# EAGLE library part MMPF0100*A (library power)
The PF0100 SMARTMOS power management integrated circuit (PMIC) provides a highly programmable/ configurable architecture, with fully integrated power devices and minimal external components. With up to six buck converters, six linear regulators, RTC supply, and coin-cell charger, the PF0100 can provide power for a complete system, including applications processors, memory, and system peripherals, in a wide range of applications. With on-chip one time programmable (OTP) memory, the PF0100 is available in pre-programmed standard versions, or non-programmed to support custom programming. The PF0100 is defined to power an entire embedded MCU platform solution such as i.MX 6 based eReader, IPTV, medical monitoring, and home/factory automation.
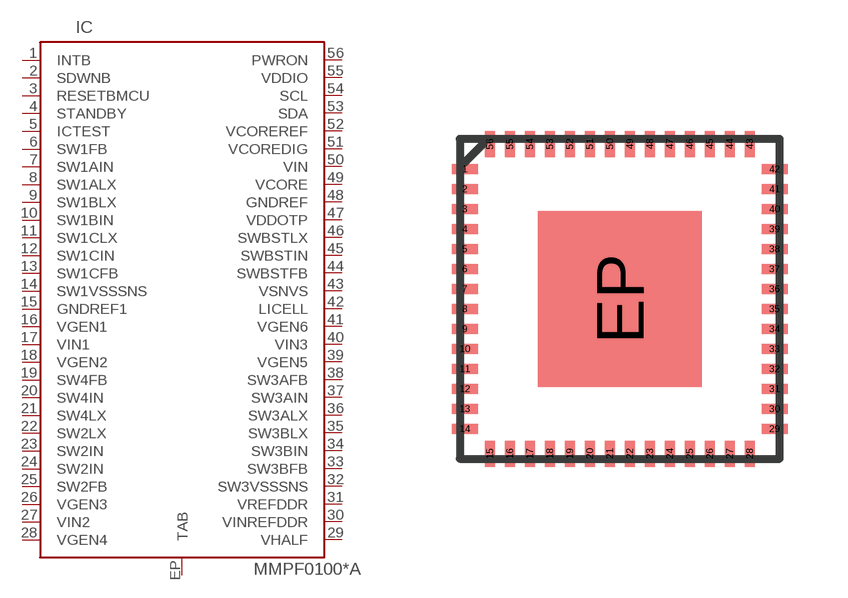
[diagram p1: symbol with the pads of QFN56_8X8P0.5; footprint QFN56_8X8P0.5]

Designator prefix IC

## MMPF0100F3AEP, MMPF0100NPAEP  [QFN56_8X8P0.5]
1  INTB  out
2  SDWNB  out
3  RESETBMCU  out
4  STANDBY  in
5  ICTEST  in
6  SW1FB  in
7  SW1AIN  in
8  SW1ALX  out
9  SW1BLX  out
10  SW1BIN  in
11  SW1CLX  out
12  SW1CIN  in
13  SW1CFB  in
14  SW1VSSSNS  pwr
15  GNDREF1  pwr
16  VGEN1  out
17  VIN1  in
18  VGEN2  out
19  SW4FB  in
20  SW4IN  in
21  SW4LX  out
22  SW2LX  out
23  SW2IN  in
24  SW2IN  in
25  SW2FB  in
26  VGEN3  out
27  VIN2  in
28  VGEN4  out
29  VHALF  in
30  VINREFDDR  in
31  VREFDDR  out
32  SW3VSSSNS  pwr
33  SW3BFB  in
34  SW3BIN  in
35  SW3BLX  out
36  SW3ALX  out
37  SW3AIN  in
38  SW3AFB  in
39  VGEN5  out
40  VIN3  in
41  VGEN6  out
42  LICELL
43  VSNVS  out
44  SWBSTFB  in
45  SWBSTIN  in
46  SWBSTLX  out
47  VDDOTP  in
48  GNDREF  pwr
49  VCORE  out
50  VIN  in
51  VCOREDIG  out
52  VCOREREF  out
53  SDA
54  SCL  in
55  VDDIO  in
56  PWRON  in
EP  TAB  in

## Footprint QFN56_8X8P0.5 (pad centres in mm)
OFN56_8X8P0.5 Auto generated by make-symbol-device-package-bsdl.ulp Rev. 44
smd 0.65 x 0.25: 1 -3.875,3.25; 2 -3.875,2.75; 3 -3.875,2.25; 4 -3.875,1.75; 5 -3.875,1.25; 6 -3.875,0.75; 7 -3.875,0.25; 8 -3.875,-0.25; 9 -3.875,-0.75; 10 -3.875,-1.25; 11 -3.875,-1.75; 12 -3.875,-2.25; 13 -3.875,-2.75; 14 -3.875,-3.25; 29 3.875,-3.25; 30 3.875,-2.75; 31 3.875,-2.25; 32 3.875,-1.75; 33 3.875,-1.25; 34 3.875,-0.75; 35 3.875,-0.25; 36 3.875,0.25; 37 3.875,0.75; 38 3.875,1.25; 39 3.875,1.75; 40 3.875,2.25; 41 3.875,2.75; 42 3.875,3.25
smd 0.25 x 0.65: 15 -3.25,-3.875; 16 -2.75,-3.875; 17 -2.25,-3.875; 18 -1.75,-3.875; 19 -1.25,-3.875; 20 -0.75,-3.875; 21 -0.25,-3.875; 22 0.25,-3.875; 23 0.75,-3.875; 24 1.25,-3.875; 25 1.75,-3.875; 26 2.25,-3.875; 27 2.75,-3.875; 28 3.25,-3.875; 43 3.25,3.875; 44 2.75,3.875; 45 2.25,3.875; 46 1.75,3.875; 47 1.25,3.875; 48 0.75,3.875; 49 0.25,3.875; 50 -0.25,3.875; 51 -0.75,3.875; 52 -1.25,3.875; 53 -1.75,3.875; 54 -2.25,3.875; 55 -2.75,3.875; 56 -3.25,3.875
smd 4.1 x 4.4: EP 0,0